# EAGLE library part ADM4073 (library ADC)
Low Cost, Voltage Output, High-Side, Current-Sense Amplifier
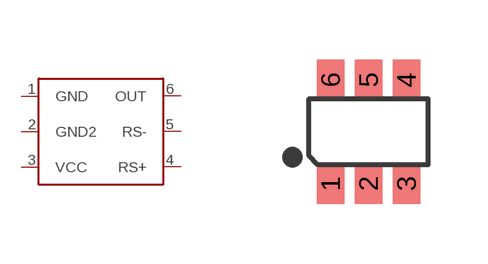
[diagram p3: symbol with the pads of SOT-23-6; footprint SOT-23-6]

Designator prefix SHUNT_AMP

## ADM4073  [SOT-23-6]
1  GND
2  GND2
3  VCC
4  RS+
5  RS-
6  OUT

## Footprint SOT-23-6 (pad centres in mm)
smd 0.69 x 1: 1 -0.95,-1.3; 2 0,-1.3; 3 0.95,-1.3; 4 0.95,1.3; 5 0,1.3; 6 -0.95,1.3